# Altium footprint library custom-case.PcbLib: 168 footprints (part 9 of 11)
Each footprint in its own frame and in the unit in brackets; x right, y up, seen from the top. Pads: shape width x height; smd on the part's side, far side on the other; paste and mask are expansions set on the pad; w line width, h text height; cw(c..) or ccw(c..) is an arc to the next point about the centre after c.
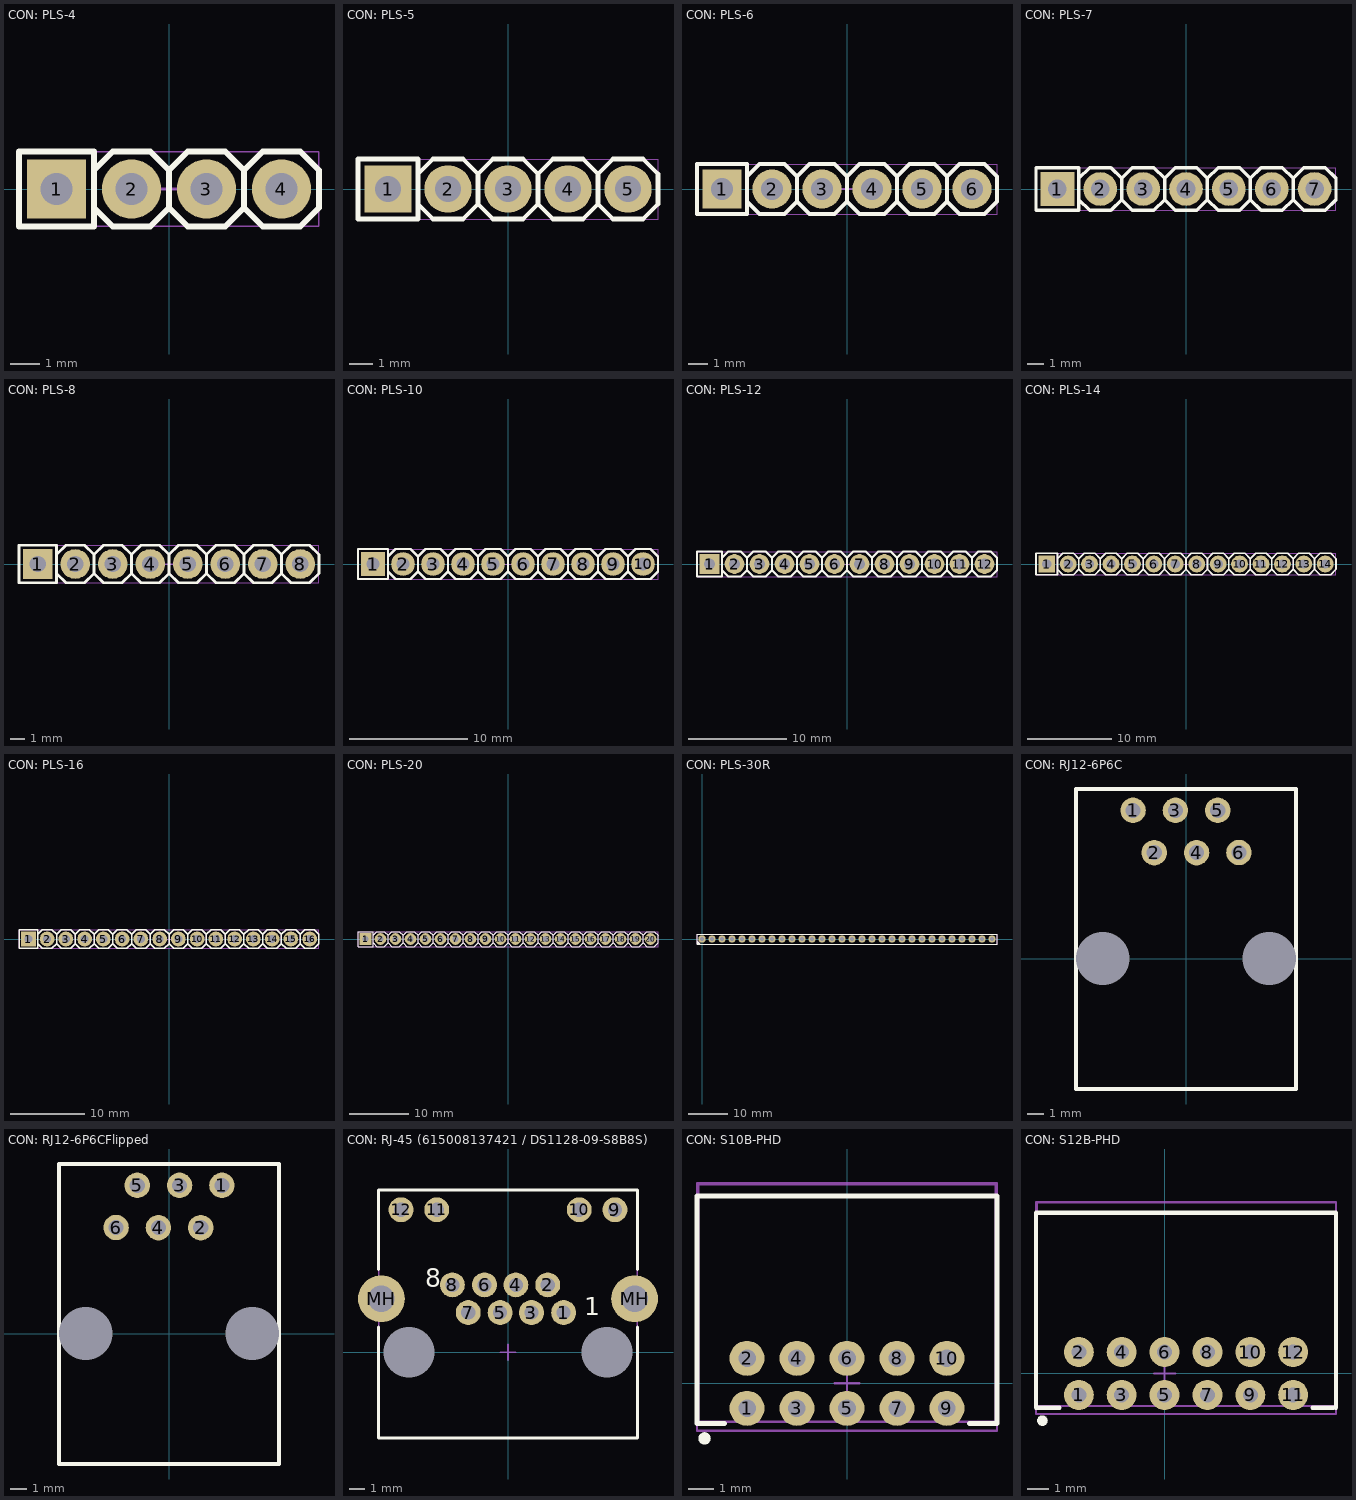
[diagram p8: the footprints below, top view; thin cyan lines are the x and y axes]

## CON: PLS-4 [mm] "PLS-40 4 pin header"
height 10
pads (4):
  rect 2x2 hole 1.1: 1(-3.81,0)
  round 2 hole 1.1: 2(-1.27,0) 3(1.27,0) 4(3.81,0)
Top Overlay:
  lines w0.2: -2.54,-0.635 -1.905,-1.27 -0.635,-1.27 0,-0.635 ; -2.54,0.635 -1.905,1.27 -0.635,1.27 0,0.635 ; 0,-0.635 0,0.635 ; 0,-0.635 0.635,-1.27 1.905,-1.27 2.54,-0.635 ; 0,0.635 0.635,1.27 1.905,1.27 2.54,0.635 ; 2.54,-0.635 2.54,0.635 ; 2.54,-0.635 3.175,-1.27 4.445,-1.27 5.08,-0.635 5.08,0.635 4.445,1.27 3.175,1.27 2.54,0.635 ; -5.08,-1.27 -5.08,1.27 -2.54,1.27 -2.54,-1.27 -5.08,-1.27
Top Assy:
  lines w0.1: -2.54,-0.635 -1.905,-1.27 -0.635,-1.27 0,-0.635 ; -2.54,0.635 -1.905,1.27 -0.635,1.27 0,0.635 ; 0,-0.635 0.635,-1.27 1.905,-1.27 2.54,-0.635 ; 0,-0.635 0,0.635 ; 0,0.635 0.635,1.27 1.905,1.27 2.54,0.635 ; 2.54,-0.635 3.175,-1.27 4.445,-1.27 5.08,-0.635 5.08,0.635 4.445,1.27 3.175,1.27 2.54,0.635 ; 2.54,-0.635 2.54,0.635 ; -5.08,-1.27 -2.54,-1.27 -2.54,1.27 -5.08,1.27 -5.08,-1.27
Size Area:
  lines w0.05: -5.08,-1.27 5.08,-1.27 5.08,1.27 -5.08,1.27 -5.08,-1.27
  lines w0.1: -0.5,0 0.5,0 ; 0,-0.5 0,0.5
3D body "PLS-4.STEP": height 8.54, standoff -3, extent -5.08,-1.27 5.08,1.27

## CON: PLS-5 [mm]
height 10
pads (5):
  rect 2x2 hole 1.1: 1(-5.08,0)
  round 2 hole 1.1: 2(-2.54,0) 3(0,0) 4(2.54,0) 5(5.08,0)
Top Overlay:
  lines w0.2: -3.81,-0.635 -3.175,-1.27 -1.905,-1.27 -1.27,-0.635 ; -3.81,0.635 -3.175,1.27 -1.905,1.27 -1.27,0.635 ; -1.27,-0.635 -1.27,0.635 ; -1.27,-0.635 -0.635,-1.27 0.635,-1.27 1.27,-0.635 ; -1.27,0.635 -0.635,1.27 0.635,1.27 1.27,0.635 ; 1.27,-0.635 1.27,0.635 ; 1.27,-0.635 1.905,-1.27 3.175,-1.27 3.81,-0.635 ; 1.27,0.635 1.905,1.27 3.175,1.27 3.81,0.635 ; 3.81,-0.635 3.81,0.635 ; 3.81,-0.635 4.445,-1.27 5.715,-1.27 6.35,-0.635 6.35,0.635 5.715,1.27 4.445,1.27 3.81,0.635 ; -6.35,-1.27 -6.35,1.27 -3.81,1.27 -3.81,-1.27 -6.35,-1.27
Top Assy:
  lines w0.1: -3.81,-0.635 -3.175,-1.27 -1.905,-1.27 -1.27,-0.635 ; -3.81,0.635 -3.175,1.27 -1.905,1.27 -1.27,0.635 ; -1.27,-0.635 -0.635,-1.27 0.635,-1.27 1.27,-0.635 ; -1.27,-0.635 -1.27,0.635 ; -1.27,0.635 -0.635,1.27 0.635,1.27 1.27,0.635 ; 1.27,-0.635 1.905,-1.27 3.175,-1.27 3.81,-0.635 ; 1.27,-0.635 1.27,0.635 ; 1.27,0.635 1.905,1.27 3.175,1.27 3.81,0.635 ; 3.81,-0.635 4.445,-1.27 5.715,-1.27 6.35,-0.635 6.35,0.635 5.715,1.27 4.445,1.27 3.81,0.635 ; 3.81,-0.635 3.81,0.635 ; -6.35,-1.27 -3.81,-1.27 -3.81,1.27 -6.35,1.27 -6.35,-1.27
Size Area:
  lines w0.05: -6.35,-1.27 6.35,-1.27 6.35,1.27 -6.35,1.27 -6.35,-1.27
  lines w0.1: -0.5,0 0.5,0 ; 0,-0.5 0,0.5
3D body "PLS-5.STEP": height 8.54, standoff -3, extent -6.35,-1.27 6.35,1.27

## CON: PLS-6 [mm]
height 10
pads (6):
  rect 2x2 hole 1.1: 1(-6.35,0)
  round 2 hole 1.1: 2(-3.81,0) 3(-1.27,0) 4(1.27,0) 5(3.81,0) 6(6.35,0)
Top Overlay:
  lines w0.2: -5.08,-0.635 -4.445,-1.27 -3.175,-1.27 -2.54,-0.635 ; -5.08,0.635 -4.445,1.27 -3.175,1.27 -2.54,0.635 ; -2.54,-0.635 -1.905,-1.27 -0.635,-1.27 0,-0.635 ; -2.54,-0.635 -2.54,0.635 ; -2.54,0.635 -1.905,1.27 -0.635,1.27 0,0.635 ; 0,-0.635 0.635,-1.27 1.905,-1.27 2.54,-0.635 ; 0,-0.635 0,0.635 ; 0,0.635 0.635,1.27 1.905,1.27 2.54,0.635 ; 2.54,-0.635 3.175,-1.27 4.445,-1.27 5.08,-0.635 ; 2.54,-0.635 2.54,0.635 ; 2.54,0.635 3.175,1.27 4.445,1.27 5.08,0.635 ; 5.08,-0.635 5.08,0.635 ; 5.08,-0.635 5.715,-1.27 6.985,-1.27 7.62,-0.635 7.62,0.635 6.985,1.27 5.715,1.27 5.08,0.635 ; -7.62,-1.27 -5.08,-1.27 -5.08,1.27 -7.62,1.27 -7.62,-1.27
Top Assy:
  lines w0.1: -5.08,-0.635 -4.445,-1.27 -3.175,-1.27 -2.54,-0.635 ; -5.08,0.635 -4.445,1.27 -3.175,1.27 -2.54,0.635 ; -2.54,-0.635 -2.54,0.635 ; -2.54,-0.635 -1.905,-1.27 -0.635,-1.27 0,-0.635 ; -2.54,0.635 -1.905,1.27 -0.635,1.27 0,0.635 ; 0,-0.635 0,0.635 ; 0,-0.635 0.635,-1.27 1.905,-1.27 2.54,-0.635 ; 0,0.635 0.635,1.27 1.905,1.27 2.54,0.635 ; 2.54,-0.635 2.54,0.635 ; 2.54,-0.635 3.175,-1.27 4.445,-1.27 5.08,-0.635 ; 2.54,0.635 3.175,1.27 4.445,1.27 5.08,0.635 ; 5.08,-0.635 5.715,-1.27 6.985,-1.27 7.62,-0.635 7.62,0.635 6.985,1.27 5.715,1.27 5.08,0.635 ; 5.08,-0.635 5.08,0.635 ; -7.62,-1.27 -7.62,1.27 -5.08,1.27 -5.08,-1.27 -7.62,-1.27
Size Area:
  lines w0.05: -7.62,-1.27 -7.62,1.27 7.62,1.27 7.62,-1.27 -7.62,-1.27
  lines w0.1: -0.5,0 0.5,0 ; 0,-0.5 0,0.5
3D body "PLS-6.STEP": height 8.54, standoff -3, extent -7.62,-1.27 7.62,1.27

## CON: PLS-7 [mm]
height 10
pads (7):
  rect 2x2 hole 1.1: 1(-7.62,0)
  round 2 hole 1.1: 2(-5.08,0) 3(-2.54,0) 4(0,0) 5(2.54,0) 6(5.08,0) 7(7.62,0)
Top Overlay:
  lines w0.2: -6.35,-0.635 -5.715,-1.27 -4.445,-1.27 -3.81,-0.635 ; -6.35,0.635 -5.715,1.27 -4.445,1.27 -3.81,0.635 ; -3.81,-0.635 -3.175,-1.27 -1.905,-1.27 -1.27,-0.635 ; -3.81,-0.635 -3.81,0.635 ; -3.81,0.635 -3.175,1.27 -1.905,1.27 -1.27,0.635 ; -1.27,-0.635 -0.635,-1.27 0.635,-1.27 1.27,-0.635 ; -1.27,-0.635 -1.27,0.635 ; -1.27,0.635 -0.635,1.27 0.635,1.27 1.27,0.635 ; 1.27,-0.635 1.905,-1.27 3.175,-1.27 3.81,-0.635 ; 1.27,-0.635 1.27,0.635 ; 1.27,0.635 1.905,1.27 3.175,1.27 3.81,0.635 ; 3.81,-0.635 3.81,0.635 ; 3.81,-0.635 4.445,-1.27 5.715,-1.27 6.35,-0.635 ; 3.81,0.635 4.445,1.27 5.715,1.27 6.35,0.635 ; 6.35,-0.635 6.985,-1.27 8.255,-1.27 8.89,-0.635 8.89,0.635 8.255,1.27 6.985,1.27 6.35,0.635 ; 6.35,-0.635 6.35,0.635 ; -8.89,-1.27 -6.35,-1.27 -6.35,1.27 -8.89,1.27 -8.89,-1.27
Top Assy:
  lines w0.1: -6.35,-0.635 -5.715,-1.27 -4.445,-1.27 -3.81,-0.635 ; -6.35,0.635 -5.715,1.27 -4.445,1.27 -3.81,0.635 ; -3.81,-0.635 -3.81,0.635 ; -3.81,-0.635 -3.175,-1.27 -1.905,-1.27 -1.27,-0.635 ; -3.81,0.635 -3.175,1.27 -1.905,1.27 -1.27,0.635 ; -1.27,-0.635 -1.27,0.635 ; -1.27,-0.635 -0.635,-1.27 0.635,-1.27 1.27,-0.635 ; -1.27,0.635 -0.635,1.27 0.635,1.27 1.27,0.635 ; 1.27,-0.635 1.27,0.635 ; 1.27,-0.635 1.905,-1.27 3.175,-1.27 3.81,-0.635 ; 1.27,0.635 1.905,1.27 3.175,1.27 3.81,0.635 ; 3.81,-0.635 4.445,-1.27 5.715,-1.27 6.35,-0.635 ; 3.81,-0.635 3.81,0.635 ; 3.81,0.635 4.445,1.27 5.715,1.27 6.35,0.635 ; 6.35,-0.635 6.35,0.635 ; 6.35,-0.635 6.985,-1.27 8.255,-1.27 8.89,-0.635 8.89,0.635 8.255,1.27 6.985,1.27 6.35,0.635 ; -8.89,-1.27 -8.89,1.27 -6.35,1.27 -6.35,-1.27 -8.89,-1.27
Size Area:
  lines w0.05: -8.89,-1.27 -8.89,1.27 8.89,1.27 8.89,-1.27 -8.89,-1.27
  lines w0.1: -0.5,0 0.5,0 ; 0,-0.5 0,0.5

## CON: PLS-8 [mm] "PLS-40 8 pin header"
height 10
pads (8):
  rect 2x2 hole 1.1: 1(-8.89,0)
  round 2 hole 1.1: 2(-6.35,0) 3(-3.81,0) 4(-1.27,0) 5(1.27,0) 6(3.81,0) 7(6.35,0) 8(8.89,0)
Top Overlay:
  lines w0.2: -7.62,-0.635 -6.985,-1.27 -5.715,-1.27 -5.08,-0.635 ; -7.62,0.635 -6.985,1.27 -5.715,1.27 -5.08,0.635 ; -5.08,-0.635 -5.08,0.635 ; -5.08,-0.635 -4.445,-1.27 -3.175,-1.27 -2.54,-0.635 ; -5.08,0.635 -4.445,1.27 -3.175,1.27 -2.54,0.635 ; -2.54,-0.635 -2.54,0.635 ; -2.54,-0.635 -1.905,-1.27 -0.635,-1.27 0,-0.635 ; -2.54,0.635 -1.905,1.27 -0.635,1.27 0,0.635 ; 0,-0.635 0,0.635 ; 0,-0.635 0.635,-1.27 1.905,-1.27 2.54,-0.635 ; 0,0.635 0.635,1.27 1.905,1.27 2.54,0.635 ; 2.54,-0.635 3.175,-1.27 4.445,-1.27 5.08,-0.635 ; 2.54,-0.635 2.54,0.635 ; 2.54,0.635 3.175,1.27 4.445,1.27 5.08,0.635 ; 5.08,-0.635 5.08,0.635 ; 5.08,-0.635 5.715,-1.27 6.985,-1.27 7.62,-0.635 ; 5.08,0.635 5.715,1.27 6.985,1.27 7.62,0.635 ; 7.62,-0.635 8.255,-1.27 9.525,-1.27 10.16,-0.635 10.16,0.635 9.525,1.27 8.255,1.27 7.62,0.635 ; 7.62,-0.635 7.62,0.635 ; -10.16,-1.27 -10.16,1.27 -7.62,1.27 -7.62,-1.27 -10.16,-1.27
Top Assy:
  lines w0.1: -7.62,-0.635 -6.985,-1.27 -5.715,-1.27 -5.08,-0.635 ; -7.62,0.635 -6.985,1.27 -5.715,1.27 -5.08,0.635 ; -5.08,-0.635 -4.445,-1.27 -3.175,-1.27 -2.54,-0.635 ; -5.08,-0.635 -5.08,0.635 ; -5.08,0.635 -4.445,1.27 -3.175,1.27 -2.54,0.635 ; -2.54,-0.635 -1.905,-1.27 -0.635,-1.27 0,-0.635 ; -2.54,-0.635 -2.54,0.635 ; -2.54,0.635 -1.905,1.27 -0.635,1.27 0,0.635 ; 0,-0.635 0.635,-1.27 1.905,-1.27 2.54,-0.635 ; 0,-0.635 0,0.635 ; 0,0.635 0.635,1.27 1.905,1.27 2.54,0.635 ; 2.54,-0.635 2.54,0.635 ; 2.54,-0.635 3.175,-1.27 4.445,-1.27 5.08,-0.635 ; 2.54,0.635 3.175,1.27 4.445,1.27 5.08,0.635 ; 5.08,-0.635 5.715,-1.27 6.985,-1.27 7.62,-0.635 ; 5.08,-0.635 5.08,0.635 ; 5.08,0.635 5.715,1.27 6.985,1.27 7.62,0.635 ; 7.62,-0.635 7.62,0.635 ; 7.62,-0.635 8.255,-1.27 9.525,-1.27 10.16,-0.635 10.16,0.635 9.525,1.27 8.255,1.27 7.62,0.635 ; -10.16,-1.27 -7.62,-1.27 -7.62,1.27 -10.16,1.27 -10.16,-1.27
Size Area:
  lines w0.05: -10.16,-1.27 10.16,-1.27 10.16,1.27 -10.16,1.27 -10.16,-1.27
  lines w0.1: -0.5,0 0.5,0 ; 0,-0.5 0,0.5
3D body "PLS-8.STEP": height 8.54, standoff -3, extent -10.16,-1.27 10.16,1.27

## CON: PLS-10 [mm] "PLS-40 10 pin header"
height 10
pads (10):
  rect 2x2 hole 1.1: 1(-11.43,0)
  round 2 hole 1.1: 2(-8.89,0) 3(-6.35,0) 4(-3.81,0) 5(-1.27,0) 6(1.27,0) 7(3.81,0) 8(6.35,0) 9(8.89,0) 10(11.43,0)
Top Overlay:
  lines w0.2: -10.16,-0.635 -9.525,-1.27 -8.255,-1.27 -7.62,-0.635 ; -10.16,0.635 -9.525,1.27 -8.255,1.27 -7.62,0.635 ; -7.62,-0.635 -6.985,-1.27 -5.715,-1.27 -5.08,-0.635 ; -7.62,-0.635 -7.62,0.635 ; -7.62,0.635 -6.985,1.27 -5.715,1.27 -5.08,0.635 ; -5.08,-0.635 -4.445,-1.27 -3.175,-1.27 -2.54,-0.635 ; -5.08,-0.635 -5.08,0.635 ; -5.08,0.635 -4.445,1.27 -3.175,1.27 -2.54,0.635 ; -2.54,-0.635 -1.905,-1.27 -0.635,-1.27 0,-0.635 ; -2.54,-0.635 -2.54,0.635 ; -2.54,0.635 -1.905,1.27 -0.635,1.27 0,0.635 ; 0,-0.635 0,0.635 ; 0,-0.635 0.635,-1.27 1.905,-1.27 2.54,-0.635 ; 0,0.635 0.635,1.27 1.905,1.27 2.54,0.635 ; 2.54,-0.635 3.175,-1.27 4.445,-1.27 5.08,-0.635 ; 2.54,-0.635 2.54,0.635 ; 2.54,0.635 3.175,1.27 4.445,1.27 5.08,0.635 ; 5.08,-0.635 5.08,0.635 ; 5.08,-0.635 5.715,-1.27 6.985,-1.27 7.62,-0.635 ; 5.08,0.635 5.715,1.27 6.985,1.27 7.62,0.635 ; 7.62,-0.635 7.62,0.635 ; 7.62,-0.635 8.255,-1.27 9.525,-1.27 10.16,-0.635 ; 7.62,0.635 8.255,1.27 9.525,1.27 10.16,0.635 ; 10.16,-0.635 10.16,0.635 ; 10.16,-0.635 10.795,-1.27 12.065,-1.27 12.7,-0.635 12.7,0.635 12.065,1.27 10.795,1.27 10.16,0.635 ; -12.7,-1.27 -10.16,-1.27 -10.16,1.27 -12.7,1.27 -12.7,-1.27
Top Assy:
  lines w0.1: -10.16,-0.635 -9.525,-1.27 -8.255,-1.27 -7.62,-0.635 ; -10.16,0.635 -9.525,1.27 -8.255,1.27 -7.62,0.635 ; -7.62,-0.635 -7.62,0.635 ; -7.62,-0.635 -6.985,-1.27 -5.715,-1.27 -5.08,-0.635 ; -7.62,0.635 -6.985,1.27 -5.715,1.27 -5.08,0.635 ; -5.08,-0.635 -5.08,0.635 ; -5.08,-0.635 -4.445,-1.27 -3.175,-1.27 -2.54,-0.635 ; -5.08,0.635 -4.445,1.27 -3.175,1.27 -2.54,0.635 ; -2.54,-0.635 -2.54,0.635 ; -2.54,-0.635 -1.905,-1.27 -0.635,-1.27 0,-0.635 ; -2.54,0.635 -1.905,1.27 -0.635,1.27 0,0.635 ; 0,-0.635 0.635,-1.27 1.905,-1.27 2.54,-0.635 ; 0,-0.635 0,0.635 ; 0,0.635 0.635,1.27 1.905,1.27 2.54,0.635 ; 2.54,-0.635 2.54,0.635 ; 2.54,-0.635 3.175,-1.27 4.445,-1.27 5.08,-0.635 ; 2.54,0.635 3.175,1.27 4.445,1.27 5.08,0.635 ; 5.08,-0.635 5.715,-1.27 6.985,-1.27 7.62,-0.635 ; 5.08,-0.635 5.08,0.635 ; 5.08,0.635 5.715,1.27 6.985,1.27 7.62,0.635 ; 7.62,-0.635 8.255,-1.27 9.525,-1.27 10.16,-0.635 ; 7.62,-0.635 7.62,0.635 ; 7.62,0.635 8.255,1.27 9.525,1.27 10.16,0.635 ; 10.16,-0.635 10.795,-1.27 12.065,-1.27 12.7,-0.635 12.7,0.635 12.065,1.27 10.795,1.27 10.16,0.635 ; 10.16,-0.635 10.16,0.635 ; -12.7,-1.27 -12.7,1.27 -10.16,1.27 -10.16,-1.27 -12.7,-1.27
Size Area:
  lines w0.05: -12.7,-1.27 -12.7,1.27 12.7,1.27 12.7,-1.27 -12.7,-1.27
  lines w0.1: -0.5,0 0.5,0 ; 0,-0.5 0,0.5
3D body "pls-10c.STEP": height 8.54, standoff -3, extent -12.7,-1.27 12.7,1.27
3D body "PLS-10.STEP": height 8.54, standoff -3, extent -12.7,-1.27 12.7,1.27

## CON: PLS-12 [mm] "PLS-40 12 pin header"
height 10
pads (12):
  rect 2x2 hole 1.1: 1(-13.97,0)
  round 2 hole 1.1: 2(-11.43,0) 3(-8.89,0) 4(-6.35,0) 5(-3.81,0) 6(-1.27,0) 7(1.27,0) 8(3.81,0) 9(6.35,0) 10(8.89,0) 11(11.43,0) 12(13.97,0)
Top Overlay:
  lines w0.2: -12.7,-0.635 -12.065,-1.27 -10.795,-1.27 -10.16,-0.635 ; -12.7,0.635 -12.065,1.27 -10.795,1.27 -10.16,0.635 ; -10.16,-0.635 -9.525,-1.27 -8.255,-1.27 -7.62,-0.635 ; -10.16,-0.635 -10.16,0.635 ; -10.16,0.635 -9.525,1.27 -8.255,1.27 -7.62,0.635 ; -7.62,-0.635 -6.985,-1.27 -5.715,-1.27 -5.08,-0.635 ; -7.62,-0.635 -7.62,0.635 ; -7.62,0.635 -6.985,1.27 -5.715,1.27 -5.08,0.635 ; -5.08,-0.635 -4.445,-1.27 -3.175,-1.27 -2.54,-0.635 ; -5.08,-0.635 -5.08,0.635 ; -5.08,0.635 -4.445,1.27 -3.175,1.27 -2.54,0.635 ; -2.54,-0.635 -2.54,0.635 ; -2.54,-0.635 -1.905,-1.27 -0.635,-1.27 0,-0.635 ; -2.54,0.635 -1.905,1.27 -0.635,1.27 0,0.635 ; 0,-0.635 0.635,-1.27 1.905,-1.27 2.54,-0.635 ; 0,-0.635 0,0.635 ; 0,0.635 0.635,1.27 1.905,1.27 2.54,0.635 ; 2.54,-0.635 2.54,0.635 ; 2.54,-0.635 3.175,-1.27 4.445,-1.27 5.08,-0.635 ; 2.54,0.635 3.175,1.27 4.445,1.27 5.08,0.635 ; 5.08,-0.635 5.08,0.635 ; 5.08,-0.635 5.715,-1.27 6.985,-1.27 7.62,-0.635 ; 5.08,0.635 5.715,1.27 6.985,1.27 7.62,0.635 ; 7.62,-0.635 7.62,0.635 ; 7.62,-0.635 8.255,-1.27 9.525,-1.27 10.16,-0.635 ; 7.62,0.635 8.255,1.27 9.525,1.27 10.16,0.635 ; 10.16,-0.635 10.795,-1.27 12.065,-1.27 12.7,-0.635 ; 10.16,-0.635 10.16,0.635 ; 10.16,0.635 10.795,1.27 12.065,1.27 12.7,0.635 ; 12.7,-0.635 12.7,0.635 ; 12.7,-0.635 13.335,-1.27 14.605,-1.27 15.24,-0.635 15.24,0.635 14.605,1.27 13.335,1.27 12.7,0.635 ; -15.24,-1.27 -12.7,-1.27 -12.7,1.27 -15.24,1.27 -15.24,-1.27
Top Assy:
  lines w0.1: -12.7,-0.635 -12.065,-1.27 -10.795,-1.27 -10.16,-0.635 ; -12.7,0.635 -12.065,1.27 -10.795,1.27 -10.16,0.635 ; -10.16,-0.635 -10.16,0.635 ; -10.16,-0.635 -9.525,-1.27 -8.255,-1.27 -7.62,-0.635 ; -10.16,0.635 -9.525,1.27 -8.255,1.27 -7.62,0.635 ; -7.62,-0.635 -7.62,0.635 ; -7.62,-0.635 -6.985,-1.27 -5.715,-1.27 -5.08,-0.635 ; -7.62,0.635 -6.985,1.27 -5.715,1.27 -5.08,0.635 ; -5.08,-0.635 -5.08,0.635 ; -5.08,-0.635 -4.445,-1.27 -3.175,-1.27 -2.54,-0.635 ; -5.08,0.635 -4.445,1.27 -3.175,1.27 -2.54,0.635 ; -2.54,-0.635 -1.905,-1.27 -0.635,-1.27 0,-0.635 ; -2.54,-0.635 -2.54,0.635 ; -2.54,0.635 -1.905,1.27 -0.635,1.27 0,0.635 ; 0,-0.635 0,0.635 ; 0,-0.635 0.635,-1.27 1.905,-1.27 2.54,-0.635 ; 0,0.635 0.635,1.27 1.905,1.27 2.54,0.635 ; 2.54,-0.635 3.175,-1.27 4.445,-1.27 5.08,-0.635 ; 2.54,-0.635 2.54,0.635 ; 2.54,0.635 3.175,1.27 4.445,1.27 5.08,0.635 ; 5.08,-0.635 5.715,-1.27 6.985,-1.27 7.62,-0.635 ; 5.08,-0.635 5.08,0.635 ; 5.08,0.635 5.715,1.27 6.985,1.27 7.62,0.635 ; 7.62,-0.635 8.255,-1.27 9.525,-1.27 10.16,-0.635 ; 7.62,-0.635 7.62,0.635 ; 7.62,0.635 8.255,1.27 9.525,1.27 10.16,0.635 ; 10.16,-0.635 10.16,0.635 ; 10.16,-0.635 10.795,-1.27 12.065,-1.27 12.7,-0.635 ; 10.16,0.635 10.795,1.27 12.065,1.27 12.7,0.635 ; 12.7,-0.635 12.7,0.635 ; 12.7,-0.635 13.335,-1.27 14.605,-1.27 15.24,-0.635 15.24,0.635 14.605,1.27 13.335,1.27 12.7,0.635 ; -15.24,-1.27 -15.24,1.27 -12.7,1.27 -12.7,-1.27 -15.24,-1.27
Size Area:
  lines w0.05: -15.24,-1.27 -15.24,1.27 15.24,1.27 15.24,-1.27 -15.24,-1.27
  lines w0.1: -0.5,0 0.5,0 ; 0,-0.5 0,0.5
3D body "PLS-12.STEP": height 8.54, standoff -3, extent -15.24,-1.27 15.24,1.27

## CON: PLS-14 [mm]
height 10
pads (14):
  rect 2x2 hole 1.1: 1(-16.51,0)
  round 2 hole 1.1: 2(-13.97,0) 3(-11.43,0) 4(-8.89,0) 5(-6.35,0) 6(-3.81,0) 7(-1.27,0) 8(1.27,0) 9(3.81,0) 10(6.35,0) 11(8.89,0) 12(11.43,0) 13(13.97,0) 14(16.51,0)
Top Overlay:
  lines w0.2: -15.24,-0.635 -14.605,-1.27 -13.335,-1.27 -12.7,-0.635 ; -15.24,0.635 -14.605,1.27 -13.335,1.27 -12.7,0.635 ; -12.7,-0.635 -12.065,-1.27 -10.795,-1.27 -10.16,-0.635 ; -12.7,-0.635 -12.7,0.635 ; -12.7,0.635 -12.065,1.27 -10.795,1.27 -10.16,0.635 ; -10.16,-0.635 -9.525,-1.27 -8.255,-1.27 -7.62,-0.635 ; -10.16,-0.635 -10.16,0.635 ; -10.16,0.635 -9.525,1.27 -8.255,1.27 -7.62,0.635 ; -7.62,-0.635 -6.985,-1.27 -5.715,-1.27 -5.08,-0.635 ; -7.62,-0.635 -7.62,0.635 ; -7.62,0.635 -6.985,1.27 -5.715,1.27 -5.08,0.635 ; -5.08,-0.635 -5.08,0.635 ; -5.08,-0.635 -4.445,-1.27 -3.175,-1.27 -2.54,-0.635 ; -5.08,0.635 -4.445,1.27 -3.175,1.27 -2.54,0.635 ; -2.54,-0.635 -1.905,-1.27 -0.635,-1.27 0,-0.635 ; -2.54,-0.635 -2.54,0.635 ; -2.54,0.635 -1.905,1.27 -0.635,1.27 0,0.635 ; 0,-0.635 0,0.635 ; 0,-0.635 0.635,-1.27 1.905,-1.27 2.54,-0.635 ; 0,0.635 0.635,1.27 1.905,1.27 2.54,0.635 ; 2.54,-0.635 2.54,0.635 ; 2.54,-0.635 3.175,-1.27 4.445,-1.27 5.08,-0.635 ; 2.54,0.635 3.175,1.27 4.445,1.27 5.08,0.635 ; 5.08,-0.635 5.08,0.635 ; 5.08,-0.635 5.715,-1.27 6.985,-1.27 7.62,-0.635 ; 5.08,0.635 5.715,1.27 6.985,1.27 7.62,0.635 ; 7.62,-0.635 8.255,-1.27 9.525,-1.27 10.16,-0.635 ; 7.62,-0.635 7.62,0.635 ; 7.62,0.635 8.255,1.27 9.525,1.27 10.16,0.635 ; 10.16,-0.635 10.16,0.635 ; 10.16,-0.635 10.795,-1.27 12.065,-1.27 12.7,-0.635 ; 10.16,0.635 10.795,1.27 12.065,1.27 12.7,0.635 ; 12.7,-0.635 12.7,0.635 ; 12.7,-0.635 13.335,-1.27 14.605,-1.27 15.24,-0.635 ; 12.7,0.635 13.335,1.27 14.605,1.27 15.24,0.635 ; 15.24,-0.635 15.875,-1.27 17.145,-1.27 17.78,-0.635 17.78,0.635 17.145,1.27 15.875,1.27 15.24,0.635 ; 15.24,-0.635 15.24,0.635 ; -17.78,-1.27 -15.24,-1.27 -15.24,1.27 -17.78,1.27 -17.78,-1.27
Top Assy:
  lines w0.1: -15.24,-0.635 -14.605,-1.27 -13.335,-1.27 -12.7,-0.635 ; -15.24,0.635 -14.605,1.27 -13.335,1.27 -12.7,0.635 ; -12.7,-0.635 -12.7,0.635 ; -12.7,-0.635 -12.065,-1.27 -10.795,-1.27 -10.16,-0.635 ; -12.7,0.635 -12.065,1.27 -10.795,1.27 -10.16,0.635 ; -10.16,-0.635 -10.16,0.635 ; -10.16,-0.635 -9.525,-1.27 -8.255,-1.27 -7.62,-0.635 ; -10.16,0.635 -9.525,1.27 -8.255,1.27 -7.62,0.635 ; -7.62,-0.635 -7.62,0.635 ; -7.62,-0.635 -6.985,-1.27 -5.715,-1.27 -5.08,-0.635 ; -7.62,0.635 -6.985,1.27 -5.715,1.27 -5.08,0.635 ; -5.08,-0.635 -4.445,-1.27 -3.175,-1.27 -2.54,-0.635 ; -5.08,-0.635 -5.08,0.635 ; -5.08,0.635 -4.445,1.27 -3.175,1.27 -2.54,0.635 ; -2.54,-0.635 -2.54,0.635 ; -2.54,-0.635 -1.905,-1.27 -0.635,-1.27 0,-0.635 ; -2.54,0.635 -1.905,1.27 -0.635,1.27 0,0.635 ; 0,-0.635 0.635,-1.27 1.905,-1.27 2.54,-0.635 ; 0,-0.635 0,0.635 ; 0,0.635 0.635,1.27 1.905,1.27 2.54,0.635 ; 2.54,-0.635 3.175,-1.27 4.445,-1.27 5.08,-0.635 ; 2.54,-0.635 2.54,0.635 ; 2.54,0.635 3.175,1.27 4.445,1.27 5.08,0.635 ; 5.08,-0.635 5.715,-1.27 6.985,-1.27 7.62,-0.635 ; 5.08,-0.635 5.08,0.635 ; 5.08,0.635 5.715,1.27 6.985,1.27 7.62,0.635 ; 7.62,-0.635 7.62,0.635 ; 7.62,-0.635 8.255,-1.27 9.525,-1.27 10.16,-0.635 ; 7.62,0.635 8.255,1.27 9.525,1.27 10.16,0.635 ; 10.16,-0.635 10.16,0.635 ; 10.16,-0.635 10.795,-1.27 12.065,-1.27 12.7,-0.635 ; 10.16,0.635 10.795,1.27 12.065,1.27 12.7,0.635 ; 12.7,-0.635 13.335,-1.27 14.605,-1.27 15.24,-0.635 ; 12.7,-0.635 12.7,0.635 ; 12.7,0.635 13.335,1.27 14.605,1.27 15.24,0.635 ; 15.24,-0.635 15.875,-1.27 17.145,-1.27 17.78,-0.635 17.78,0.635 17.145,1.27 15.875,1.27 15.24,0.635 ; 15.24,-0.635 15.24,0.635 ; -17.78,-1.27 -17.78,1.27 -15.24,1.27 -15.24,-1.27 -17.78,-1.27
Size Area:
  lines w0.05: -17.78,-1.27 -17.78,1.27 17.78,1.27 17.78,-1.27 -17.78,-1.27
  lines w0.1: -0.5,0 0.5,0 ; 0,-0.5 0,0.5
3D body "PLS-14.STEP": height 8.54, standoff -3, extent -17.78,-1.27 17.78,1.27

## CON: PLS-16 [mm]
height 10
pads (16):
  rect 2x2 hole 1.1: 1(-19.05,0)
  round 2 hole 1.1: 2(-16.51,0) 3(-13.97,0) 4(-11.43,0) 5(-8.89,0) 6(-6.35,0) 7(-3.81,0) 8(-1.27,0) 9(1.27,0) 10(3.81,0) 11(6.35,0) 12(8.89,0) 13(11.43,0) 14(13.97,0) 15(16.51,0) 16(19.05,0)
Top Overlay:
  lines w0.2: -17.78,-0.635 -17.145,-1.27 -15.875,-1.27 -15.24,-0.635 ; -17.78,0.635 -17.145,1.27 -15.875,1.27 -15.24,0.635 ; -15.24,-0.635 -15.24,0.635 ; -15.24,-0.635 -14.605,-1.27 -13.335,-1.27 -12.7,-0.635 ; -15.24,0.635 -14.605,1.27 -13.335,1.27 -12.7,0.635 ; -12.7,-0.635 -12.7,0.635 ; -12.7,-0.635 -12.065,-1.27 -10.795,-1.27 -10.16,-0.635 ; -12.7,0.635 -12.065,1.27 -10.795,1.27 -10.16,0.635 ; -10.16,-0.635 -10.16,0.635 ; -10.16,-0.635 -9.525,-1.27 -8.255,-1.27 -7.62,-0.635 ; -10.16,0.635 -9.525,1.27 -8.255,1.27 -7.62,0.635 ; -7.62,-0.635 -6.985,-1.27 -5.715,-1.27 -5.08,-0.635 ; -7.62,-0.635 -7.62,0.635 ; -7.62,0.635 -6.985,1.27 -5.715,1.27 -5.08,0.635 ; -5.08,-0.635 -5.08,0.635 ; -5.08,-0.635 -4.445,-1.27 -3.175,-1.27 -2.54,-0.635 ; -5.08,0.635 -4.445,1.27 -3.175,1.27 -2.54,0.635 ; -2.54,-0.635 -1.905,-1.27 -0.635,-1.27 0,-0.635 ; -2.54,-0.635 -2.54,0.635 ; -2.54,0.635 -1.905,1.27 -0.635,1.27 0,0.635 ; 0,-0.635 0.635,-1.27 1.905,-1.27 2.54,-0.635 ; 0,-0.635 0,0.635 ; 0,0.635 0.635,1.27 1.905,1.27 2.54,0.635 ; 2.54,-0.635 3.175,-1.27 4.445,-1.27 5.08,-0.635 ; 2.54,-0.635 2.54,0.635 ; 2.54,0.635 3.175,1.27 4.445,1.27 5.08,0.635 ; 5.08,-0.635 5.08,0.635 ; 5.08,-0.635 5.715,-1.27 6.985,-1.27 7.62,-0.635 ; 5.08,0.635 5.715,1.27 6.985,1.27 7.62,0.635 ; 7.62,-0.635 8.255,-1.27 9.525,-1.27 10.16,-0.635 ; 7.62,-0.635 7.62,0.635 ; 7.62,0.635 8.255,1.27 9.525,1.27 10.16,0.635 ; 10.16,-0.635 10.795,-1.27 12.065,-1.27 12.7,-0.635 ; 10.16,-0.635 10.16,0.635 ; 10.16,0.635 10.795,1.27 12.065,1.27 12.7,0.635 ; 12.7,-0.635 12.7,0.635 ; 12.7,-0.635 13.335,-1.27 14.605,-1.27 15.24,-0.635 ; 12.7,0.635 13.335,1.27 14.605,1.27 15.24,0.635 ; 15.24,-0.635 15.875,-1.27 17.145,-1.27 17.78,-0.635 ; 15.24,-0.635 15.24,0.635 ; 15.24,0.635 15.875,1.27 17.145,1.27 17.78,0.635 ; 17.78,-0.635 17.78,0.635 ; 17.78,-0.635 18.415,-1.27 19.685,-1.27 20.32,-0.635 20.32,0.635 19.685,1.27 18.415,1.27 17.78,0.635 ; -20.32,-1.27 -20.32,1.27 -17.78,1.27 -17.78,-1.27 -20.32,-1.27
Top Assy:
  lines w0.1: -17.78,-0.635 -17.145,-1.27 -15.875,-1.27 -15.24,-0.635 ; -17.78,0.635 -17.145,1.27 -15.875,1.27 -15.24,0.635 ; -15.24,-0.635 -14.605,-1.27 -13.335,-1.27 -12.7,-0.635 ; -15.24,-0.635 -15.24,0.635 ; -15.24,0.635 -14.605,1.27 -13.335,1.27 -12.7,0.635 ; -12.7,-0.635 -12.065,-1.27 -10.795,-1.27 -10.16,-0.635 ; -12.7,-0.635 -12.7,0.635 ; -12.7,0.635 -12.065,1.27 -10.795,1.27 -10.16,0.635 ; -10.16,-0.635 -9.525,-1.27 -8.255,-1.27 -7.62,-0.635 ; -10.16,-0.635 -10.16,0.635 ; -10.16,0.635 -9.525,1.27 -8.255,1.27 -7.62,0.635 ; -7.62,-0.635 -7.62,0.635 ; -7.62,-0.635 -6.985,-1.27 -5.715,-1.27 -5.08,-0.635 ; -7.62,0.635 -6.985,1.27 -5.715,1.27 -5.08,0.635 ; -5.08,-0.635 -4.445,-1.27 -3.175,-1.27 -2.54,-0.635 ; -5.08,-0.635 -5.08,0.635 ; -5.08,0.635 -4.445,1.27 -3.175,1.27 -2.54,0.635 ; -2.54,-0.635 -2.54,0.635 ; -2.54,-0.635 -1.905,-1.27 -0.635,-1.27 0,-0.635 ; -2.54,0.635 -1.905,1.27 -0.635,1.27 0,0.635 ; 0,-0.635 0,0.635 ; 0,-0.635 0.635,-1.27 1.905,-1.27 2.54,-0.635 ; 0,0.635 0.635,1.27 1.905,1.27 2.54,0.635 ; 2.54,-0.635 2.54,0.635 ; 2.54,-0.635 3.175,-1.27 4.445,-1.27 5.08,-0.635 ; 2.54,0.635 3.175,1.27 4.445,1.27 5.08,0.635 ; 5.08,-0.635 5.715,-1.27 6.985,-1.27 7.62,-0.635 ; 5.08,-0.635 5.08,0.635 ; 5.08,0.635 5.715,1.27 6.985,1.27 7.62,0.635 ; 7.62,-0.635 8.255,-1.27 9.525,-1.27 10.16,-0.635 ; 7.62,-0.635 7.62,0.635 ; 7.62,0.635 8.255,1.27 9.525,1.27 10.16,0.635 ; 10.16,-0.635 10.16,0.635 ; 10.16,-0.635 10.795,-1.27 12.065,-1.27 12.7,-0.635 ; 10.16,0.635 10.795,1.27 12.065,1.27 12.7,0.635 ; 12.7,-0.635 12.7,0.635 ; 12.7,-0.635 13.335,-1.27 14.605,-1.27 15.24,-0.635 ; 12.7,0.635 13.335,1.27 14.605,1.27 15.24,0.635 ; 15.24,-0.635 15.24,0.635 ; 15.24,-0.635 15.875,-1.27 17.145,-1.27 17.78,-0.635 ; 15.24,0.635 15.875,1.27 17.145,1.27 17.78,0.635 ; 17.78,-0.635 17.78,0.635 ; 17.78,-0.635 18.415,-1.27 19.685,-1.27 20.32,-0.635 20.32,0.635 19.685,1.27 18.415,1.27 17.78,0.635 ; -20.32,-1.27 -17.78,-1.27 -17.78,1.27 -20.32,1.27 -20.32,-1.27
Size Area:
  lines w0.05: -20.32,-1.27 20.32,-1.27 20.32,1.27 -20.32,1.27 -20.32,-1.27
  lines w0.1: -0.5,0 0.5,0 ; 0,-0.5 0,0.5
3D body "PLS-16.STEP": height 8.54, standoff -3, extent -20.32,-1.27 20.32,1.27

## CON: PLS-20 [mm]
height 10
pads (20):
  rect 2x2 hole 1.1: 1(-24.13,0)
  round 2 hole 1.1: 2(-21.59,0) 3(-19.05,0) 4(-16.51,0) 5(-13.97,0) 6(-11.43,0) 7(-8.89,0) 8(-6.35,0) 9(-3.81,0) 10(-1.27,0) 11(1.27,0) 12(3.81,0) 13(6.35,0) 14(8.89,0) 15(11.43,0) 16(13.97,0) 17(16.51,0) 18(19.05,0) 19(21.59,0) 20(24.13,0)
Top Overlay:
  lines w0.2: -22.86,-0.635 -22.225,-1.27 -20.955,-1.27 -20.32,-0.635 ; -22.86,0.635 -22.225,1.27 -20.955,1.27 -20.32,0.635 ; -20.32,-0.635 -19.685,-1.27 -18.415,-1.27 -17.78,-0.635 ; -20.32,-0.635 -20.32,0.635 ; -20.32,0.635 -19.685,1.27 -18.415,1.27 -17.78,0.635 ; -17.78,-0.635 -17.145,-1.27 -15.875,-1.27 -15.24,-0.635 ; -17.78,-0.635 -17.78,0.635 ; -17.78,0.635 -17.145,1.27 -15.875,1.27 -15.24,0.635 ; -15.24,-0.635 -14.605,-1.27 -13.335,-1.27 -12.7,-0.635 ; -15.24,-0.635 -15.24,0.635 ; -15.24,0.635 -14.605,1.27 -13.335,1.27 -12.7,0.635 ; -12.7,-0.635 -12.7,0.635 ; -12.7,-0.635 -12.065,-1.27 -10.795,-1.27 -10.16,-0.635 ; -12.7,0.635 -12.065,1.27 -10.795,1.27 -10.16,0.635 ; -10.16,-0.635 -9.525,-1.27 -8.255,-1.27 -7.62,-0.635 ; -10.16,-0.635 -10.16,0.635 ; -10.16,0.635 -9.525,1.27 -8.255,1.27 -7.62,0.635 ; -7.62,-0.635 -7.62,0.635 ; -7.62,-0.635 -6.985,-1.27 -5.715,-1.27 -5.08,-0.635 ; -7.62,0.635 -6.985,1.27 -5.715,1.27 -5.08,0.635 ; -5.08,-0.635 -5.08,0.635 ; -5.08,-0.635 -4.445,-1.27 -3.175,-1.27 -2.54,-0.635 ; -5.08,0.635 -4.445,1.27 -3.175,1.27 -2.54,0.635 ; -2.54,-0.635 -2.54,0.635 ; -2.54,-0.635 -1.905,-1.27 -0.635,-1.27 0,-0.635 ; -2.54,0.635 -1.905,1.27 -0.635,1.27 0,0.635 ; 0,-0.635 0.635,-1.27 1.905,-1.27 2.54,-0.635 ; 0,-0.635 0,0.635 ; 0,0.635 0.635,1.27 1.905,1.27 2.54,0.635 ; 2.54,-0.635 2.54,0.635 ; 2.54,-0.635 3.175,-1.27 4.445,-1.27 5.08,-0.635 ; 2.54,0.635 3.175,1.27 4.445,1.27 5.08,0.635 ; 5.08,-0.635 5.08,0.635 ; 5.08,-0.635 5.715,-1.27 6.985,-1.27 7.62,-0.635 ; 5.08,0.635 5.715,1.27 6.985,1.27 7.62,0.635 ; 7.62,-0.635 8.255,-1.27 9.525,-1.27 10.16,-0.635 ; 7.62,-0.635 7.62,0.635 ; 7.62,0.635 8.255,1.27 9.525,1.27 10.16,0.635 ; 10.16,-0.635 10.16,0.635 ; 10.16,-0.635 10.795,-1.27 12.065,-1.27 12.7,-0.635 ; 10.16,0.635 10.795,1.27 12.065,1.27 12.7,0.635 ; 12.7,-0.635 13.335,-1.27 14.605,-1.27 15.24,-0.635 ; 12.7,-0.635 12.7,0.635 ; 12.7,0.635 13.335,1.27 14.605,1.27 15.24,0.635 ; 15.24,-0.635 15.24,0.635 ; 15.24,-0.635 15.875,-1.27 17.145,-1.27 17.78,-0.635 ; 15.24,0.635 15.875,1.27 17.145,1.27 17.78,0.635 ; 17.78,-0.635 17.78,0.635 ; 17.78,-0.635 18.415,-1.27 19.685,-1.27 20.32,-0.635 ; 17.78,0.635 18.415,1.27 19.685,1.27 20.32,0.635 ; 20.32,-0.635 20.955,-1.27 22.225,-1.27 22.86,-0.635 ; 20.32,-0.635 20.32,0.635 ; 20.32,0.635 20.955,1.27 22.225,1.27 22.86,0.635 ; 22.86,-0.635 22.86,0.635 ; 22.86,-0.635 23.495,-1.27 24.765,-1.27 25.4,-0.635 25.4,0.635 24.765,1.27 23.495,1.27 22.86,0.635 ; -25.4,-1.27 -22.86,-1.27 -22.86,1.27 -25.4,1.27 -25.4,-1.27
Top Assy:
  lines w0.1: -22.86,-0.635 -22.225,-1.27 -20.955,-1.27 -20.32,-0.635 ; -22.86,0.635 -22.225,1.27 -20.955,1.27 -20.32,0.635 ; -20.32,-0.635 -20.32,0.635 ; -20.32,-0.635 -19.685,-1.27 -18.415,-1.27 -17.78,-0.635 ; -20.32,0.635 -19.685,1.27 -18.415,1.27 -17.78,0.635 ; -17.78,-0.635 -17.78,0.635 ; -17.78,-0.635 -17.145,-1.27 -15.875,-1.27 -15.24,-0.635 ; -17.78,0.635 -17.145,1.27 -15.875,1.27 -15.24,0.635 ; -15.24,-0.635 -15.24,0.635 ; -15.24,-0.635 -14.605,-1.27 -13.335,-1.27 -12.7,-0.635 ; -15.24,0.635 -14.605,1.27 -13.335,1.27 -12.7,0.635 ; -12.7,-0.635 -12.065,-1.27 -10.795,-1.27 -10.16,-0.635 ; -12.7,-0.635 -12.7,0.635 ; -12.7,0.635 -12.065,1.27 -10.795,1.27 -10.16,0.635 ; -10.16,-0.635 -10.16,0.635 ; -10.16,-0.635 -9.525,-1.27 -8.255,-1.27 -7.62,-0.635 ; -10.16,0.635 -9.525,1.27 -8.255,1.27 -7.62,0.635 ; -7.62,-0.635 -6.985,-1.27 -5.715,-1.27 -5.08,-0.635 ; -7.62,-0.635 -7.62,0.635 ; -7.62,0.635 -6.985,1.27 -5.715,1.27 -5.08,0.635 ; -5.08,-0.635 -4.445,-1.27 -3.175,-1.27 -2.54,-0.635 ; -5.08,-0.635 -5.08,0.635 ; -5.08,0.635 -4.445,1.27 -3.175,1.27 -2.54,0.635 ; -2.54,-0.635 -1.905,-1.27 -0.635,-1.27 0,-0.635 ; -2.54,-0.635 -2.54,0.635 ; -2.54,0.635 -1.905,1.27 -0.635,1.27 0,0.635 ; 0,-0.635 0,0.635 ; 0,-0.635 0.635,-1.27 1.905,-1.27 2.54,-0.635 ; 0,0.635 0.635,1.27 1.905,1.27 2.54,0.635 ; 2.54,-0.635 2.54,0.635 ; 2.54,-0.635 3.175,-1.27 4.445,-1.27 5.08,-0.635 ; 2.54,0.635 3.175,1.27 4.445,1.27 5.08,0.635 ; 5.08,-0.635 5.715,-1.27 6.985,-1.27 7.62,-0.635 ; 5.08,-0.635 5.08,0.635 ; 5.08,0.635 5.715,1.27 6.985,1.27 7.62,0.635 ; 7.62,-0.635 8.255,-1.27 9.525,-1.27 10.16,-0.635 ; 7.62,-0.635 7.62,0.635 ; 7.62,0.635 8.255,1.27 9.525,1.27 10.16,0.635 ; 10.16,-0.635 10.795,-1.27 12.065,-1.27 12.7,-0.635 ; 10.16,-0.635 10.16,0.635 ; 10.16,0.635 10.795,1.27 12.065,1.27 12.7,0.635 ; 12.7,-0.635 13.335,-1.27 14.605,-1.27 15.24,-0.635 ; 12.7,-0.635 12.7,0.635 ; 12.7,0.635 13.335,1.27 14.605,1.27 15.24,0.635 ; 15.24,-0.635 15.24,0.635 ; 15.24,-0.635 15.875,-1.27 17.145,-1.27 17.78,-0.635 ; 15.24,0.635 15.875,1.27 17.145,1.27 17.78,0.635 ; 17.78,-0.635 17.78,0.635 ; 17.78,-0.635 18.415,-1.27 19.685,-1.27 20.32,-0.635 ; 17.78,0.635 18.415,1.27 19.685,1.27 20.32,0.635 ; 20.32,-0.635 20.32,0.635 ; 20.32,-0.635 20.955,-1.27 22.225,-1.27 22.86,-0.635 ; 20.32,0.635 20.955,1.27 22.225,1.27 22.86,0.635 ; 22.86,-0.635 22.86,0.635 ; 22.86,-0.635 23.495,-1.27 24.765,-1.27 25.4,-0.635 25.4,0.635 24.765,1.27 23.495,1.27 22.86,0.635 ; -25.4,-1.27 -25.4,1.27 -22.86,1.27 -22.86,-1.27 -25.4,-1.27
Size Area:
  lines w0.05: 25.4,-1.27 -25.4,-1.27 -25.4,1.27 25.4,1.27 ; 25.4,-1.27 25.4,1.27 ; 25.4,-1.27 25.4,1.27
  lines w0.1: -0.5,0 0.5,0 ; 0,-0.5 0,0.5
3D body "PLS-20.STEP": height 8.54, standoff -3, extent -25.4,-1.27 25.4,1.27

## CON: PLS-30R [mm]
pads (31):
  oct 1.8x1.8 hole 1: 1(0,0)
  round 1.8 hole 1: 2(2.54,0) 3(5.08,0) 4(7.62,0) 5(10.16,0) 6(12.7,0) 7(15.24,0) 8(17.78,0) 9(20.32,0) 10(22.86,0) 11(25.4,0) 12(27.94,0) 13(30.48,0) 14(33.02,0) 15(35.56,0) 16(38.1,0) 17(40.64,0) 18(43.18,0) 19(45.72,0) 20(48.26,0) 21(50.8,0) 22(53.34,0) 23(55.88,0) 24(58.42,0) 25(60.96,0) 26(63.5,0) 27(66.04,0) 28(68.58,0) 29(71.12,0) 30(73.66,0)
  round 0.5 on Mech1: ""(-0.875,-0.875)
Top Overlay:
  region: -1.27,-0.48 -0.48,-1.27 -1.27,-1.27
  lines w0.2: -1.27,-1.27 -1.27,1.27 74.93,1.27 74.93,-1.27 -1.27,-1.27
Top Assy:
  lines w0.1: -1.27,-1.27 -1.27,1.27 74.93,1.27 74.93,-1.27 -1.27,-1.27
Size Area:
  lines w0.1: -1.27,-1.27 -1.27,1.27 74.93,1.27 74.93,-1.27 -1.27,-1.27
3D body "PLS30-90.STEP": height 5.49, standoff -2.96, extent -1.27,-7.35 74.93,1.27

## CON: RJ12-6P6C [mil]
pads (8):
  round 60 hole 35.43: 1(-125,350) 2(-75,250) 3(-25,350) 4(25,250) 5(75,350) 6(125,250.39)
  round 60 hole 125.98 unplated: ""(-196.85,0) ""(196.85,0)
Top Overlay:
  lines w10: -259.84,-308.27 -259.84,400.39 259.84,400.39 259.84,-308.27 -259.84,-308.27
3D body "RJ12-6P6C.SLDPRT": height 460.63, standoff -129.92, extent -259.84,-308.27 259.84,400.39

## CON: RJ12-6P6CFlipped [mil]
pads (8):
  round 60 / inner round 60 / far side round 0 hole 35.43 unplated paste-99999: 1(125,350) 2(75,250) 3(25,350) 4(-25,250) 5(-75,350) 6(-125,250.39)
  round 60 hole 125.98 unplated: ""(-196.85,0) ""(196.85,0)
Top Overlay:
  lines w10: -259.84,-308.27 259.84,-308.27 259.84,400.39 -259.84,400.39 -259.84,-308.27
3D body "RJ12-6P6C.SLDPRT": height 70.87, standoff -519.68, extent -259.84,-308.27 259.84,400.39

## CON: RJ-45 (615008137421 / DS1128-09-S8B8S) [mm]
pads (16):
  round 1.6 hole 0.9: 1(3.57,2.54) 2(2.55,4.32) 3(1.503,2.54) 4(0.501,4.32) 5(-0.501,2.54) 6(-1.503,4.32) 7(-2.55,2.54) 8(-3.57,4.32) 9(6.86,9.14) 10(4.57,9.14) 11(-4.57,9.14) 12(-6.86,9.14)
  round 3 hole 1.7: MH(-8.125,3.43) MH(8.125,3.43)
  round 0 hole 3.25: MH(-6.35,0) MH(6.35,0)
Top Overlay:
  lines w0.2: -8.3,1.6 -8.3,-5.5 8.3,-5.5 8.3,1.6 ; -8.3,5.3 -8.3,10.4 8.3,10.4 8.3,5.3
  text "1" at 4.9,2 h2
  text "8" at -5.3,3.8 h2
Top Assy:
  lines w0.1: -8.3,-5.5 -8.3,10.4 8.3,10.4 8.3,-5.5 -8.3,-5.5
Size Area:
  lines w0.1: -0.501,0 0.501,0 ; 0,-0.5 0,0.5 ; -8.3,-5.5 -8.3,10.4 8.3,10.4 8.3,-5.5 -8.3,-5.5
3D body "615008137421_Download_STP_615008137421_rev1.stp": height 15.23, standoff -3.21, extent -9.875,-5.855 9.875,10.595

## CON: S10B-PHD [mm]
pads (11):
  round 1.4 hole 0.7: 1(-4,-1) 2(-4,1) 3(-2,-1) 4(-2,1) 5(0,-1) 6(0,1) 7(2,-1) 8(2,1) 9(4,-1) 10(4,1)
  round 0.5 on Top Overlay: ""(-5.7,-2.2)
Top Overlay:
  lines w0.2: -4.9,-1.6 -5.9,-1.6 -6,-1.6 -6,7.5 6,7.5 6,-1.6 5.9,-1.6 4.9,-1.6
Top Assy:
  lines w0.1: -5.95,-1.525 -5.95,7.975 5.95,7.975 5.95,-1.525 -5.95,-1.525
Size Area:
  lines w0.1: -0.5,0 0.5,0 ; 0,-0.5 0,0.5 ; -6,-1.9 -6,8 6,8 6,-1.9 -6,-1.9
3D body "S10B-PHD.STEP": height 5, standoff -3, extent -5.95,-1.525 5.95,7.975

## CON: S12B-PHD [mm]
pads (13):
  round 1.4 hole 0.7: 1(-4,-1) 2(-4,1) 3(-2,-1) 4(-2,1) 5(0,-1) 6(0,1) 7(2,-1) 8(2,1) 9(4,-1) 10(4,1) 11(6,-1) 12(6,1)
  round 0.5 on Top Overlay: ""(-5.7,-2.2)
Top Overlay:
  lines w0.2: -4.9,-1.6 -5.9,-1.6 -6,-1.6 -6,7.5 8,7.5 8,-1.6 ; 6.9,-1.6 7.9,-1.6
Top Assy:
  lines w0.1: -5.95,-1.525 -5.95,7.975 8,7.975 8,-1.525 -5.95,-1.525
Size Area:
  lines w0.1: -0.5,0 0.5,0 ; 0,-0.5 0,0.5 ; -6,-1.9 8,-1.9 8,8 -6,8 -6,-1.9
3D body "S12B-PHDSS.STEP": height 5, standoff 0, extent -5.95,-1.525 7.95,7.975